# Altium schematic symbol library SCH - SENSOR - ACCELEROMETER - ST LIS2DUXS12.SCHLIB: 1 symbol
Pins are listed as number, name and electrical type; pins without a type are passive.

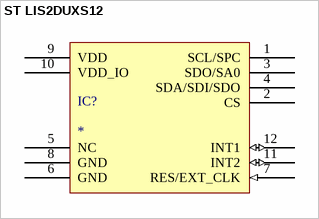
[diagram p0: symbol ST LIS2DUXS12]

## ST LIS2DUXS12
designator IC?
pins: 1 SCL/SPC, 2 CS, 3 SDO/SA0, 4 SDA/SDI/SDO, 5 NC (hiz), 6 GND (power), 7 RES/EXT_CLK (in), 8 GND (power), 9 VDD (power), 10 VDD_IO (power), 11 INT2 (io), 12 INT1 (io)